# EAGLE library part TM4C123GH6PMI (library ICs)
32BIT 80MHZ CORTEX-M4F, LQFP-64, 256KB program memory, 32KB RAM, 43IOs
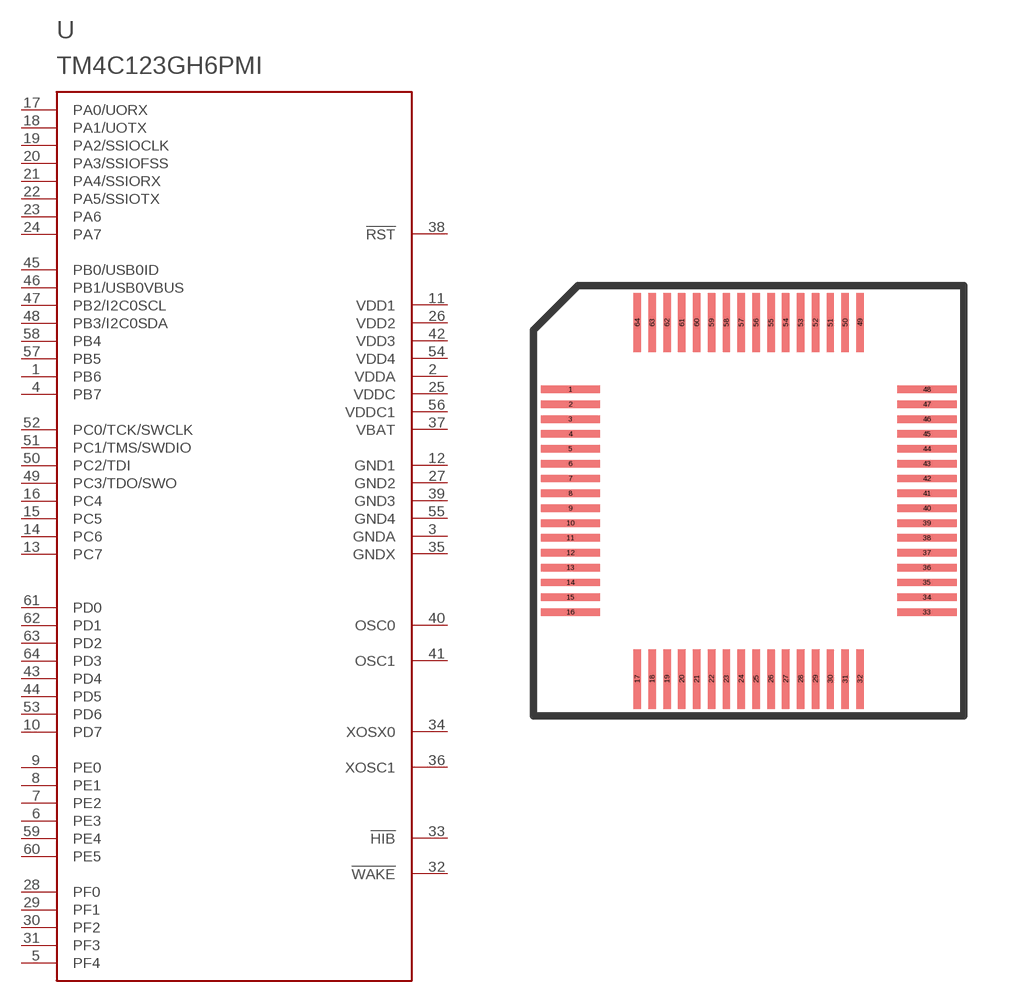
[diagram p20: symbol with the pads of QFP64; footprint QFP64]

Designator prefix U

## TM4C123GH6PMILQFP (FARNELL: 2428912; VALUE: TM4C123GH6PMI)  [QFP64]
1  PB6
2  VDDA
3  GNDA
4  PB7
5  PF4
6  PE3
7  PE2
8  PE1
9  PE0
10  PD7
11  VDD1
12  GND1
13  PC7
14  PC6
15  PC5
16  PC4
17  PA0/UORX
18  PA1/UOTX
19  PA2/SSIOCLK
20  PA3/SSIOFSS
21  PA4/SSIORX
22  PA5/SSIOTX
23  PA6
24  PA7
25  VDDC
26  VDD2
27  GND2
28  PF0
29  PF1
30  PF2
31  PF3
32  !WAKE!
33  !HIB
34  XOSX0
35  GNDX
36  XOSC1
37  VBAT
38  !RST
39  GND3
40  OSC0
41  OSC1
42  VDD3
43  PD4
44  PD5
45  PB0/USB0ID
46  PB1/USB0VBUS
47  PB2/I2C0SCL
48  PB3/I2C0SDA
49  PC3/TDO/SWO
50  PC2/TDI
51  PC1/TMS/SWDIO
52  PC0/TCK/SWCLK
53  PD6
54  VDD4
55  GND4
56  VDDC1
57  PB5
58  PB4
59  PE4
60  PE5
61  PD0
62  PD1
63  PD2
64  PD3

## Footprint QFP64 (pad centres in mm)
smd 2 x 0.25: 1 -6,3.75; 2 -6,3.25; 3 -6,2.75; 4 -6,2.25; 5 -6,1.75; 6 -6,1.25; 7 -6,0.75; 8 -6,0.25; 9 -6,-0.25; 10 -6,-0.75; 11 -6,-1.25; 12 -6,-1.75; 13 -6,-2.25; 14 -6,-2.75; 15 -6,-3.25; 16 -6,-3.75; 33 6,-3.75; 34 6,-3.25; 35 6,-2.75; 36 6,-2.25; 37 6,-1.75; 38 6,-1.25; 39 6,-0.75; 40 6,-0.25; 41 6,0.25; 42 6,0.75; 43 6,1.25; 44 6,1.75; 45 6,2.25; 46 6,2.75; 47 6,3.25; 48 6,3.75
smd 0.25 x 2: 17 -3.75,-6; 18 -3.25,-6; 19 -2.75,-6; 20 -2.25,-6; 21 -1.75,-6; 22 -1.25,-6; 23 -0.75,-6; 24 -0.25,-6; 25 0.25,-6; 26 0.75,-6; 27 1.25,-6; 28 1.75,-6; 29 2.25,-6; 30 2.75,-6; 31 3.25,-6; 32 3.75,-6; 49 3.75,6; 50 3.25,6; 51 2.75,6; 52 2.25,6; 53 1.75,6; 54 1.25,6; 55 0.75,6; 56 0.25,6; 57 -0.25,6; 58 -0.75,6; 59 -1.25,6; 60 -1.75,6; 61 -2.25,6; 62 -2.75,6; 63 -3.25,6; 64 -3.75,6